# EAGLE library part LMZ13608 (library Alpha-Power)
LMZ13608 8-A SIMPLE SWITCHER Power Module With 36-V Maximum Input Voltage http://www.ti.com/lit/ds/symlink/lmz13608.pdf
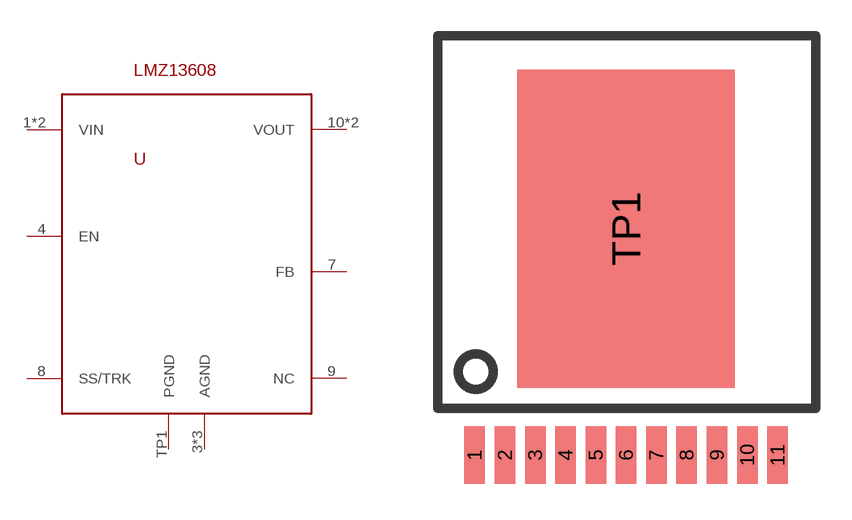
[diagram p2: symbol with the pads of NDY; footprint NDY]

Designator prefix U

## LMZ13608 (MPN: LMZ13608TZ/NOPB; OC_FARNELL: 2492265; PACKAGE: NDY (11); SUPPLIER: Texas Instruments)  [NDY]
1  VIN  pwr
2  VIN  pwr
3  AGND  pwr
4  EN  in
5  AGND  pwr
6  AGND  pwr
7  FB  in
8  SS/TRK  in
9  NC  nc
10  VOUT  pwr
11  VOUT  pwr
TP1  PGND  pwr

## Footprint NDY (pad centres in mm)
NDY(11)
smd 0.86 x 2.41: 1 -6.35,0; 2 -5.08,0; 3 -3.81,0; 4 -2.54,0; 5 -1.27,0; 6 0,0; 7 1.27,0; 8 2.54,0; 9 3.81,0; 10 5.08,0; 11 6.35,0
smd 9.126 x 13.37: TP1 0,9.5